# Altium footprint library Connector_PinHeader_2.54mm.PcbLib: 3 footprints
Each footprint in its own frame and in the unit in brackets; x right, y up, seen from the top. Pads: shape width x height; smd on the part's side, far side on the other; paste and mask are expansions set on the pad; w line width, h text height; cw(c..) or ccw(c..) is an arc to the next point about the centre after c.
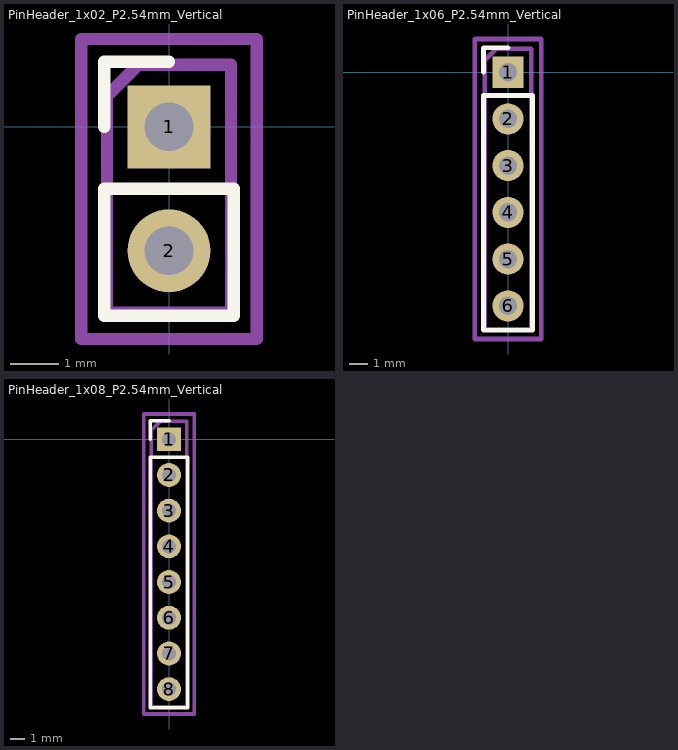
[diagram p0: the footprints below, top view; thin cyan lines are the x and y axes]

## PinHeader_1x02_P2.54mm_Vertical [mm]
pads (2):
  rect 1.7x1.7 hole 1: 1(0,0)
  rrect100% 1.7x1.7 hole 1: 2(0,-2.54)
F.SilkS:
  lines w0.254: -1.33,0 -1.33,1.33 0,1.33 ; -1.33,-3.87 -1.33,-1.27 1.33,-1.27 1.33,-3.87 -1.33,-3.87
F.Fab:
  lines w0.254: -1.27,-3.81 -1.27,0.635 -0.635,1.27 1.27,1.27 1.27,-3.81 -1.27,-3.81
  text "'.Designator'" at 0.84,-5.317 h1
F.CrtYd:
  lines w0.254: -1.8,-4.35 -1.8,1.8 1.8,1.8 1.8,-4.35 -1.8,-4.35

## PinHeader_1x06_P2.54mm_Vertical [mm]
pads (6):
  rect 1.7x1.7 hole 1: 1(0,0)
  rrect100% 1.7x1.7 hole 1: 2(0,-2.54) 3(0,-5.08) 4(0,-7.62) 5(0,-10.16) 6(0,-12.7)
F.SilkS:
  lines w0.254: -1.33,0 -1.33,1.33 0,1.33 ; -1.33,-14.03 -1.33,-1.27 1.33,-1.27 1.33,-14.03 -1.33,-14.03
F.Fab:
  lines w0.254: -1.27,-13.97 -1.27,0.635 -0.635,1.27 1.27,1.27 1.27,-13.97 -1.27,-13.97
  text "'.Designator'" at 0.84,-10.397 h1
F.CrtYd:
  lines w0.254: -1.8,-14.5 -1.8,1.8 1.8,1.8 1.8,-14.5 -1.8,-14.5

## PinHeader_1x08_P2.54mm_Vertical [mm]
pads (8):
  rect 1.7x1.7 hole 1: 1(0,0)
  rrect100% 1.7x1.7 hole 1: 2(0,-2.54) 3(0,-5.08) 4(0,-7.62) 5(0,-10.16) 6(0,-12.7) 7(0,-15.24) 8(0,-17.78)
F.SilkS:
  lines w0.254: -1.33,0 -1.33,1.33 0,1.33 ; -1.33,-19.11 -1.33,-1.27 1.33,-1.27 1.33,-19.11 -1.33,-19.11
F.Fab:
  lines w0.254: -1.27,-19.05 -1.27,0.635 -0.635,1.27 1.27,1.27 1.27,-19.05 -1.27,-19.05
  text "'.Designator'" at 0.84,-12.937 h1
F.CrtYd:
  lines w0.254: -1.8,-19.55 -1.8,1.8 1.8,1.8 1.8,-19.55 -1.8,-19.55